# EAGLE library part TEXAS_INSTRUMENTS-MUX-CD74HC4052PW (library Module_ICs)
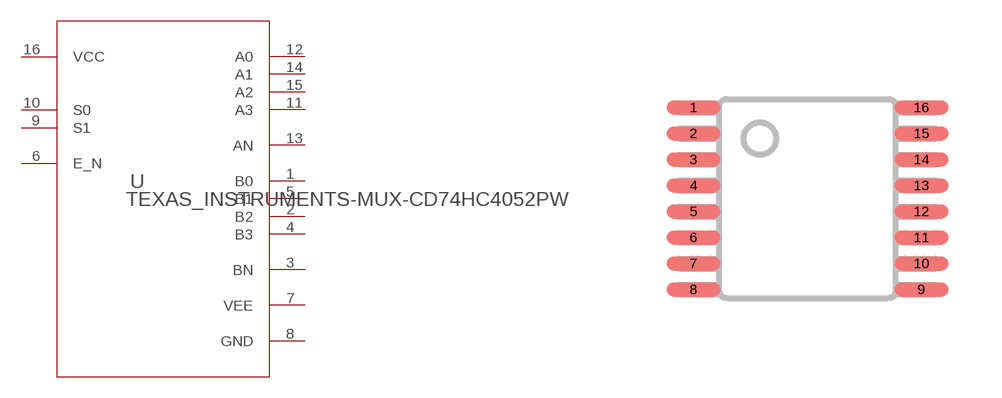
[diagram p51: symbol with the pads of TEXAS_INSTRUMENTS-MUX-CD74HC4052PW; footprint TEXAS_INSTRUMENTS-MUX-CD74HC4052PW]

Designator prefix U

## TEXAS_INSTRUMENTS-MUX-CD74HC4052PW (ALTERNATEPARTNUMBER: CD74HC4052PWT; COMPTYPE: IC; MANUFACTURER: Texas Instruments; MOUNTTYPE: SMT; PACKAGEREFERENCE: PW0016A; PARTNUMBER: CD74HC4052PWR; PIN_COUNT: 16; REFDES: RefDes; ROHS: Y; TYPE: TYPE; VALUE: Value)  [TEXAS_INSTRUMENTS-MUX-CD74HC4052PW]
1  B0
2  B2
3  BN
4  B3
5  B1
6  E_N  in
7  VEE  pwr
8  GND  pwr
9  S1  in
10  S0  in
11  A3
12  A0
13  AN
14  A1
15  A2
16  VCC  pwr

## Footprint TEXAS_INSTRUMENTS-MUX-CD74HC4052PW (pad centres in mm)
smd 1.35 x 0.35: 1 -2.85,2.275; 2 -2.85,1.625; 3 -2.85,0.975; 4 -2.85,0.325; 5 -2.85,-0.325; 6 -2.85,-0.975; 7 -2.85,-1.625; 8 -2.85,-2.275; 9 2.85,-2.275; 10 2.85,-1.625; 11 2.85,-0.975; 12 2.85,-0.325; 13 2.85,0.325; 14 2.85,0.975; 15 2.85,1.625; 16 2.85,2.275